# EAGLE library part 615024143921 (library 632723100011_Eagle_WR-USB_rev19b)
WR-MJ Horizontal Plastic 4 Port 6P6C Modular Jack Tab Up, 24 pins=>Code : Con_I-O_MJ-H_Plastic_Up_615024143921 <http://katalog.we-online.de/media/images/eican/Con_I-O_MJ-H_Plastic_Up_615024143921_pf2.jpg> Details see: http://katalog.we-online.de/en/em/MJ_THT_HORIZONTAL_PLASTIC_4_PORT_6P6C_TAB_UP Created 2014-07-10, Karrer Zheng 2014 (C) Würth Elektronik
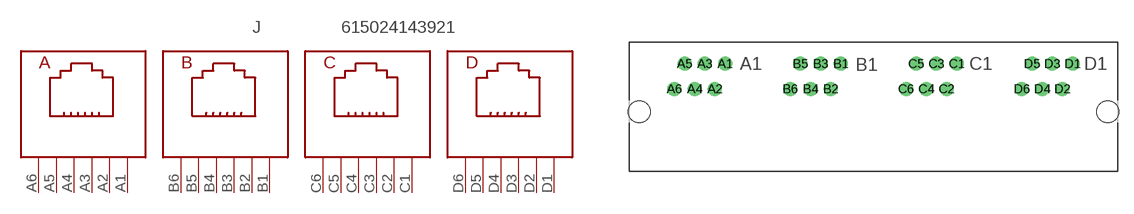
[diagram p128: symbol with the pads of 615024143921; footprint 615024143921]

Designator prefix J

## 615024143921  [615024143921]
A1  A1  pas
A2  A2  pas
A3  A3  pas
A4  A4  pas
A5  A5  pas
A6  A6  pas
B1  B1  pas
B2  B2  pas
B3  B3  pas
B4  B4  pas
B5  B5  pas
B6  B6  pas
C1  C1  pas
C2  C2  pas
C3  C3  pas
C4  C4  pas
C5  C5  pas
C6  C6  pas
D1  D1  pas
D2  D2  pas
D3  D3  pas
D4  D4  pas
D5  D5  pas
D6  D6  pas

## Footprint 615024143921 (pad centres in mm)
WR-MJ Horizontal Plastic 4 Port 6P6C Modular Jack Tab Up, 24 pins
drill 0.9: A1 -14.925,4.84; A2 -15.945,2.3; A3 -16.965,4.84; A4 -17.985,2.3; A5 -19.005,4.84; A6 -20.025,2.3; B1 -3.275,4.84; B2 -4.295,2.3; B3 -5.315,4.84; B4 -6.335,2.3; B5 -7.355,4.84; B6 -8.375,2.3; C1 8.375,4.84; C2 7.355,2.3; C3 6.335,4.84; C4 5.315,2.3; C5 4.295,4.84; C6 3.275,2.3; D1 20.025,4.84; D2 19.005,2.3; D3 17.985,4.84; D4 16.965,2.3; D5 15.945,4.84; D6 14.925,2.3
hole 2.2 at -23.55,0
hole 2.2 at 23.55,0